# Altium footprint library XH，VH.PcbLib: 67 footprints (part 5 of 5)
Each footprint in its own frame and in the unit in brackets; x right, y up, seen from the top. Pads: shape width x height; smd on the part's side, far side on the other; paste and mask are expansions set on the pad; w line width, h text height; cw(c..) or ccw(c..) is an arc to the next point about the centre after c.
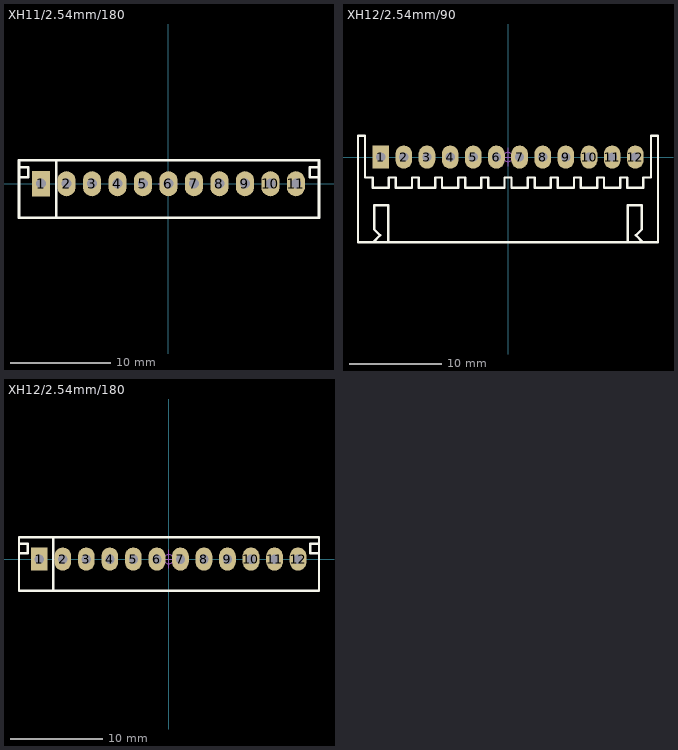
[diagram p4: the footprints below, top view; thin cyan lines are the x and y axes]

## XH11/2.54mm/180 [mm]
pads (11):
  rect 1.8x2.5 hole 1: 1(-12.7,0)
  oval 1.8x2.5 hole 1: 2(-10.16,0) 3(-7.62,0) 4(-5.08,0) 5(-2.54,0) 6(0,0) 7(2.54,0) 8(5.08,0) 9(7.62,0) 10(10.16,0) 11(12.7,0)
Top Overlay:
  lines w0.254: -14.896,0.65 -13.97,0.65 -13.97,1.65 -14.896,1.65 ; -11.196,-3.4 -11.196,2.35 ; 15.004,0.65 14.078,0.65 14.078,1.65 15.004,1.65 ; -14.896,-3.4 15.004,-3.4 15.004,2.35 -14.896,2.35 -14.896,-3.4
Mechanical 15:
  circle w0.1: c0,0 r0.5
  lines w0.1: -1,0 1,0 ; 0,-1 0,1
3D body "JST-B11B-XH-A.STEP": height 7, standoff -3.4, extent -14.896,-3.4 15.004,2.35

## XH12/2.54mm/90 [mm]
pads (12):
  rect 1.8x2.5 hole 1: 1(-13.75,0)
  oval 1.8x2.5 hole 1: 2(-11.25,0) 3(-8.75,0) 4(-6.25,0) 5(-3.75,0) 6(-1.25,0) 7(1.25,0) 8(3.75,0) 9(6.25,0) 10(8.75,0) 11(11.25,0) 12(13.75,0)
Top Overlay:
  lines w0.254: -14.54,-9.172 -13.814,-8.445 -14.45,-7.809 -14.45,-5.2 -12.95,-5.2 -12.95,-9.2 ; 12.95,-9.2 12.95,-5.2 14.45,-5.2 14.45,-7.809 13.814,-8.445 14.54,-9.172 ; -16.2,-9.2 16.2,-9.2 16.2,2.3 15.45,2.3 15.45,-2.2 14.625,-2.2 14.625,-3.3 12.875,-3.3 12.875,-2.2 12.125,-2.2 12.125,-3.3 10.375,-3.3 10.375,-2.2 9.625,-2.2 9.625,-3.3 7.875,-3.3 7.875,-2.2 7.125,-2.2 7.125,-3.3 5.375,-3.3 5.375,-2.2 4.625,-2.2 4.625,-3.3 2.875,-3.3 2.875,-2.2 2.125,-2.2 2.125,-3.3 0.375,-3.3 0.375,-2.2 -0.375,-2.2 -0.375,-3.3 -2.125,-3.3 -2.125,-2.2 -2.875,-2.2 -2.875,-3.3 -4.625,-3.3 -4.625,-2.2 -5.375,-2.2 -5.375,-3.3 -7.125,-3.3 -7.125,-2.2 -7.875,-2.2 -7.875,-3.3 -9.625,-3.3 -9.625,-2.2 -10.375,-2.2 -10.375,-3.3 -12.125,-3.3 -12.125,-2.2 -12.875,-2.2 -12.875,-3.3 -14.625,-3.3 -14.625,-2.2 -15.45,-2.2 -15.45,2.3 -16.2,2.3 -16.2,-9.2
Mechanical 15:
  circle w0.1: c0,0 r0.5
  lines w0.1: -1,0 1,0 ; 0,-1 0,1
3D body "JST-S12B-XH-A.STEP": height 6.1, standoff -3.4, extent -16.2,-9.2 16.2,2.3

## XH12/2.54mm/180 [mm]
pads (12):
  rect 1.8x2.5 hole 1: 1(-13.97,0)
  oval 1.8x2.5 hole 1: 2(-11.43,0) 3(-8.89,0) 4(-6.35,0) 5(-3.81,0) 6(-1.27,0) 7(1.27,0) 8(3.81,0) 9(6.35,0) 10(8.89,0) 11(11.43,0) 12(13.97,0)
Top Overlay:
  lines w0.254: -16.166,0.65 -15.24,0.65 -15.24,1.65 -16.166,1.65 ; -12.466,-3.4 -12.466,2.35 ; 16.234,0.65 15.308,0.65 15.308,1.65 16.234,1.65 ; -16.166,-3.4 16.234,-3.4 16.234,2.35 -16.166,2.35 -16.166,-3.4
Mechanical 15:
  circle w0.1: c0,0 r0.5
  lines w0.1: -1,0 1,0 ; 0,-1 0,1
3D body "JST-B12B-XH-A.STEP": height 7, standoff -3.4, extent -16.166,-3.4 16.234,2.35